# EAGLE library part A6278 (library allegro-sr)
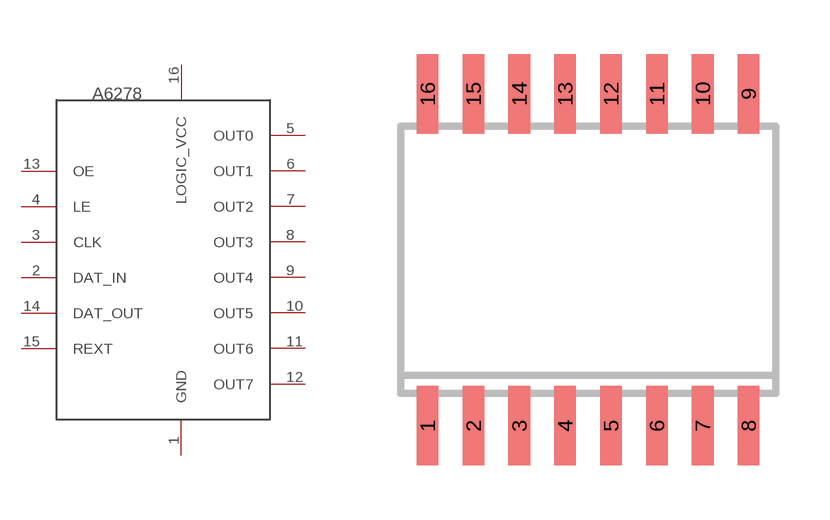
[diagram p1: symbol with the pads of SO16W; footprint SO16W]

Designator prefix -

## A6278  [SO16W]
1  GND  pwr
2  DAT_IN  in
3  CLK  in
4  LE  in
5  OUT0  out
6  OUT1  out
7  OUT2  out
8  OUT3  out
9  OUT4  out
10  OUT5  out
11  OUT6  out
12  OUT7  out
13  OE  in
14  DAT_OUT  out
15  REXT  in
16  LOGIC_VCC  pwr

## Footprint SO16W (pad centres in mm)
smd 0.6 x 2.2: 1 -4.445,-4.6; 2 -3.175,-4.6; 3 -1.905,-4.6; 4 -0.635,-4.6; 5 0.635,-4.6; 6 1.905,-4.6; 7 3.175,-4.6; 8 4.445,-4.6; 9 4.445,4.6; 10 3.175,4.6; 11 1.905,4.6; 12 0.635,4.6; 13 -0.635,4.6; 14 -1.905,4.6; 15 -3.175,4.6; 16 -4.445,4.6